# Altium footprint library SnapEDApcb.PcbLib: 1 footprints
Each footprint in its own frame and in the unit in brackets; x right, y up, seen from the top. Pads: shape width x height; smd on the part's side, far side on the other; paste and mask are expansions set on the pad; w line width, h text height; cw(c..) or ccw(c..) is an arc to the next point about the centre after c.
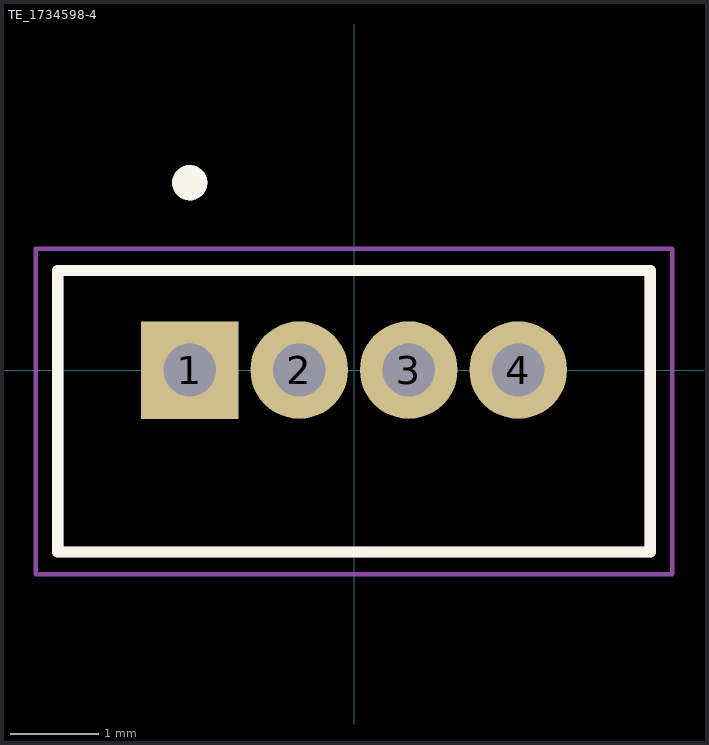
[diagram p0: the footprint, top view; thin cyan lines are the x and y axes]

## TE_1734598-4 [mm]
pads (4):
  rect 1.108x1.108 hole 0.6: 1(-1.867,0)
  round 1.108 hole 0.6: 2(-0.622,0) 3(0.622,0) 4(1.867,0)
Top Overlay:
  circle w0.2: c-1.867,2.13 r0.1
  lines w0.127: -3.367,-2.07 3.367,-2.07 3.367,1.13 -3.367,1.13 -3.367,-2.07
Mechanical 13:
  circle w0.2: c-1.867,2.13 r0.1
  lines w0.127: -3.367,-2.07 3.367,-2.07 3.367,1.13 -3.367,1.13 -3.367,-2.07
Mechanical 15:
  lines w0.05: -3.617,-2.32 3.617,-2.32 3.617,1.38 -3.617,1.38 -3.617,-2.32